# Altium schematic symbol library benschlib.SchLib: 2 symbols
Pins are listed as number, name and electrical type; pins without a type are passive.

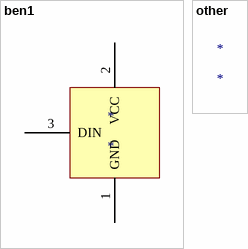
[diagram p0: symbols ben1 to other]

## ben1
designator *
footprint benfootprint (this is ben's footprint)
footprint benfootprint2
pins: 1 GND (power), 2 VCC (power), 3 DIN (power)

## other
designator *